# EAGLE library part PIC12F1822 (library WaterDrop)
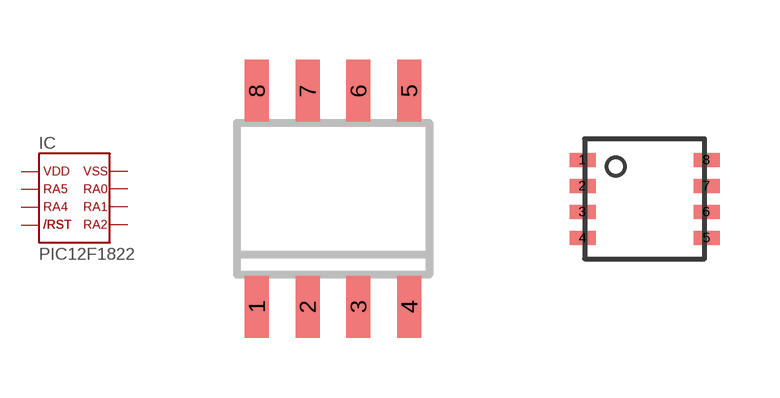
[diagram p0: symbol with the pads of SO8; footprints SO8, DFN-S]

Designator prefix IC

## PIC12F1822  [SO8]
1  P$1  pwr
2  P$2
3  P$3
4  P$4
5  P$5
6  P$6
7  P$7
8  P$8  pwr

## PIC12F1822DFN  [DFN-S]
Pads as for SO8

## Footprint SO8 (pad centres in mm)
smd 0.6 x 1.55: 1 -1.905,-2.7; 2 -0.635,-2.7; 3 0.635,-2.7; 4 1.905,-2.7; 5 1.905,2.7; 6 0.635,2.7; 7 -0.635,2.7; 8 -1.905,2.7

## Footprint DFN-S (pad centres in mm)
smd 0.65 x 0.35: 1 -1.55,0.975; 2 -1.55,0.325; 3 -1.55,-0.325; 4 -1.55,-0.975; 5 1.55,-0.975; 6 1.55,-0.325; 7 1.55,0.325; 8 1.55,0.975